# EAGLE library part QSX7TR (library QSX7TR)
NPN+NPN, SOT-457T, Driver Transistor Source: Datasheet <https://fscdn.rohm.com/en/products/databook/datasheet/discrete/transistor/bipolar/qsx7tr-e.pdf>
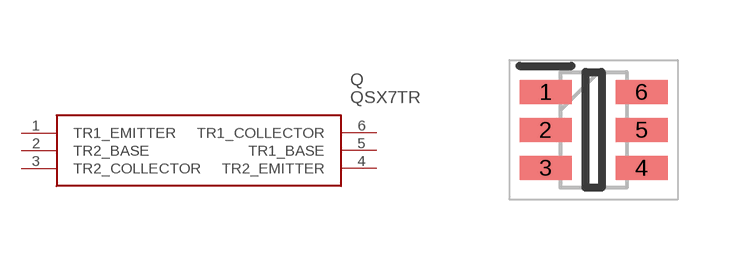
[diagram p0: symbol with the pads of SOT95P280X100-6N; footprint SOT95P280X100-6N]

Designator prefix Q

## QSX7TR (Description: NPN+NPN, SOT-457T, Driver Transistor; Height: 1mm; Manufacturer_Name: ROHM Semiconductor; Manufacturer_Part_Number: QSX7TR)  [SOT95P280X100-6N]
1  TR1_EMITTER
2  TR2_BASE
3  TR2_COLLECTOR
4  TR2_EMITTER
5  TR1_BASE
6  TR1_COLLECTOR

## Footprint SOT95P280X100-6N (pad centres in mm)
TSMT6-2021
smd 1.3 x 0.6: 1 -1.2,0.95; 2 -1.2,0; 3 -1.2,-0.95; 4 1.2,-0.95; 5 1.2,0; 6 1.2,0.95